# EAGLE library part TLP2160 (library optocoupler-jqi)
TLP2160, 20 MBd photocoupler, 2 channels
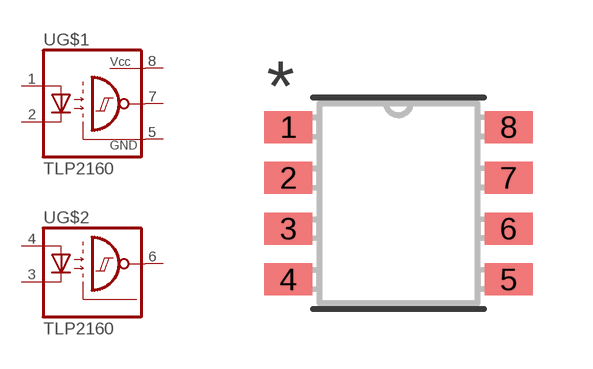
[diagram p0: symbol with the pads of SO-8_S; footprint SO-8_S]

Designator prefix U; gates G$1=TLP2160A G$2=TLP2160B

## TLP2160  [SO-8_S]
1  G$1:A  pas
2  G$1:C  pas
3  G$2:C  pas
4  G$2:A  pas
5  G$1:GND  pas
6  G$2:OUT  pas
7  G$1:OUT  pas
8  G$1:VCC  pas

## Footprint SO-8_S (pad centres in mm)
smd 1.2 x 0.8: 1 -2.75,1.905; 2 -2.75,0.635; 3 -2.75,-0.635; 4 -2.75,-1.905; 5 2.75,-1.905; 6 2.75,-0.635; 7 2.75,0.635; 8 2.75,1.905